# Altium footprint library HDDR_6x1_RA.PcbLib: 1 footprints
Each footprint in its own frame and in the unit in brackets; x right, y up, seen from the top. Pads: shape width x height; smd on the part's side, far side on the other; paste and mask are expansions set on the pad; w line width, h text height; cw(c..) or ccw(c..) is an arc to the next point about the centre after c.
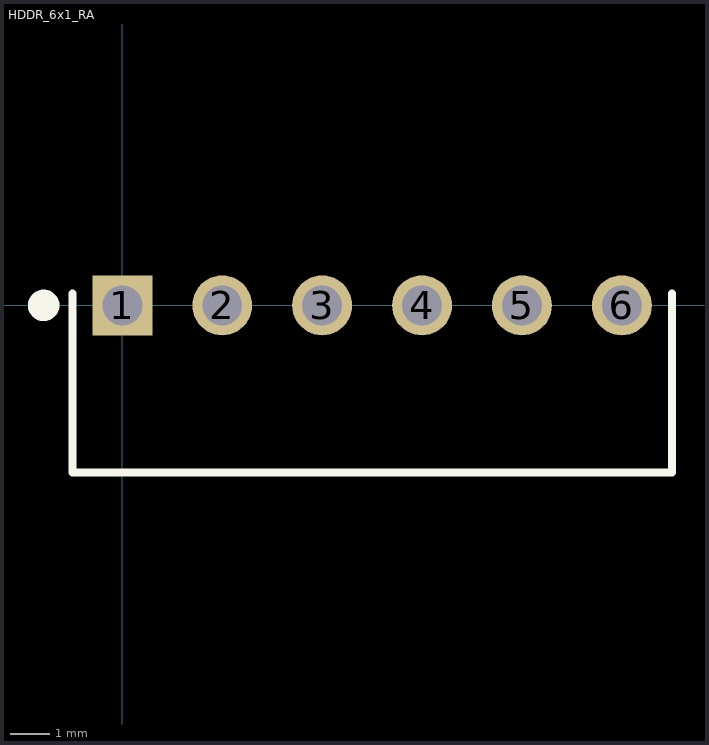
[diagram p0: the footprint, top view; thin cyan lines are the x and y axes]

## HDDR_6x1_RA [mil] "Header, 6-pos, Right-Angle"
pads (6):
  rect 60x60 hole 40: 1(0,0)
  round 60 hole 40: 2(100,0) 3(200,0) 4(300,0) 5(400,0) 6(500,0)
Top Overlay:
  circle w15.75: c-78.74,0 r7.87
  lines w7.87: -50,11.81 -50,-167.32 550.39,-167.32 550.39,11.81
3D body "TSW_106_08_F_S_RA.SLDPRT": height 121.09, standoff -87.91, extent -49.21,-390.69 550.79,11.81